# EAGLE library part FSM-22045-15B (library taki-library)
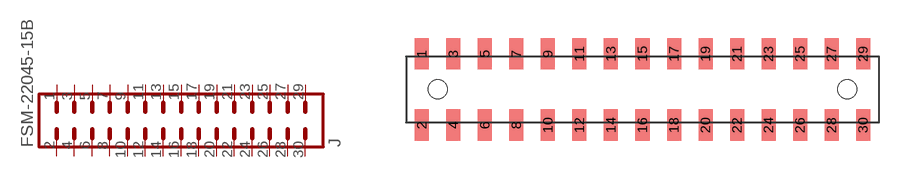
[diagram p14: symbol with the pads of FSM-22045-15B; footprint FSM-22045-15B]

Designator prefix J

## FSM-22045-15B  [FSM-22045-15B]
1  P$1
2  P$2
3  P$3
4  P$4
5  P$5
6  P$6
7  P$7
8  P$8
9  P$9
10  P$10
11  P$11
12  P$12
13  P$13
14  P$14
15  P$15
16  P$16
17  P$17
18  P$18
19  P$19
20  P$20
21  P$21
22  P$22
23  P$23
24  P$24
25  P$25
26  P$26
27  P$27
28  P$28
29  P$29
30  P$30

## Footprint FSM-22045-15B (pad centres in mm)
smd 0.89 x 1.975: 1 -13.97,2.263; 2 -13.97,-2.263; 3 -11.97,2.263; 4 -11.97,-2.263; 5 -9.97,2.263; 6 -9.97,-2.263; 7 -7.97,2.263; 8 -7.97,-2.263; 9 -5.97,2.263; 10 -5.97,-2.263; 11 -3.97,2.263; 12 -3.97,-2.263; 13 -1.97,2.263; 14 -1.97,-2.263; 15 0.03,2.263; 16 0.03,-2.263; 17 2.03,2.263; 18 2.03,-2.263; 19 4.03,2.263; 20 4.03,-2.263; 21 6.03,2.263; 22 6.03,-2.263; 23 8.03,2.263; 24 8.03,-2.263; 25 10.03,2.263; 26 10.03,-2.263; 27 12.03,2.263; 28 12.03,-2.263; 29 14.03,2.263; 30 14.03,-2.263
hole 1.2 at -12.97,0
hole 1.2 at 13.03,0